# Altium integrated library BC557B.IntLib: 1 symbol
Pins are listed as number, name and electrical type; pins without a type are passive.

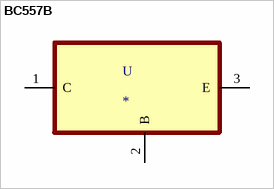
[diagram p0: symbol BC557B]

## BC557B
designator U
Tranzistor bipolar _BJT_ PNP 45V 100mA 320MHz 625mW Gura de trecere TO-92-3; MP: BC557B; MF: Diotec Semiconductor; Value: *; Package: TO-226-3 Diotec Semiconductor; Availability: Unavailable; SnapEDA_Link: https://www.snapeda.com/parts/BC557B/Diotec/view-part/4702102/?ref=snap; Price: None
footprint TO127P254X732-3
pins: 1 C, 2 B, 3 E